# Altium integrated library MOS管.IntLib: 3 symbols
Pins are listed as number, name and electrical type; pins without a type are passive.

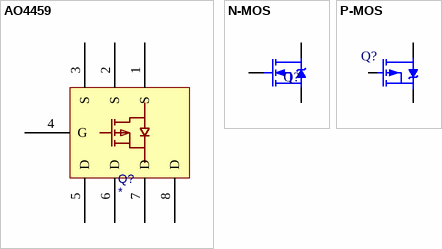
[diagram p0: symbols AO4459 to P-MOS]

## AO4459
designator Q?
SOP8封装; BOM_Manufacturer: AOS; BOM_Manufacturer Part: AO4459; BOM_Supplier: LCSC; BOM_Supplier Part: C49047; BOM_JLCPCB Part Class: Extended Part; spicePre: Q; spiceSymbolName: AO4459
footprint SOP8
pins: 1 S, 2 S, 3 S, 4 G, 5 D, 6 D, 7 D, 8 D

## N-MOS
designator Q?
N沟道场效应管
footprint TO220A
footprint TO220B
footprint TO92A (92晶体管)
footprint TO92B (92晶体管)
footprint TO252 (252晶体管)
footprint SOT23
pins: D, G, S

## P-MOS
designator Q?
P沟道场效应管
footprint TO263-3A
footprint TO263-3B
footprint SOT23
footprint TO252 (252晶体管)
pins: D, G, S